# EAGLE library part TPS54332 (library power)
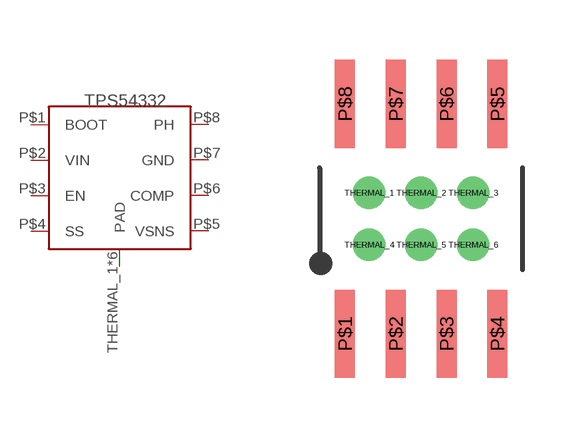
[diagram p0: symbol with the pads of DDA(8-POWERSOIC)_THERAL; footprint DDA(8-POWERSOIC)_THERAL]

Designator prefix U

## TPS54332A  [DDA(8-POWERSOIC)_THERAL]
P$1  BOOT
P$2  VIN
P$3  EN
P$4  SS
P$5  VSNS
P$6  COMP
P$7  GND
P$8  PH
THERMAL_1  PAD
THERMAL_2  PAD
THERMAL_3  PAD
THERMAL_4  PAD
THERMAL_5  PAD
THERMAL_6  PAD

## Footprint DDA(8-POWERSOIC)_THERAL (pad centres in mm)
8-PowerSOIC DDA(R-PDSO-G9) (0.154", 3.90mm Width)
smd 0.5 x 2.2: P$1 -1.905,-2.875; P$2 -0.635,-2.875; P$3 0.635,-2.875; P$4 1.905,-2.875; P$5 1.905,2.875; P$6 0.635,2.875; P$7 -0.635,2.875; P$8 -1.905,2.875
drill 0.3: THERMAL_1 -1.3,0.65; THERMAL_2 0,0.65; THERMAL_3 1.3,0.65; THERMAL_4 -1.3,-0.65; THERMAL_5 0,-0.65; THERMAL_6 1.3,-0.65